# Altium schematic symbol library Atmega168-20au.SchLib: 1 symbol
Pins are listed as number, name and electrical type; pins without a type are passive.

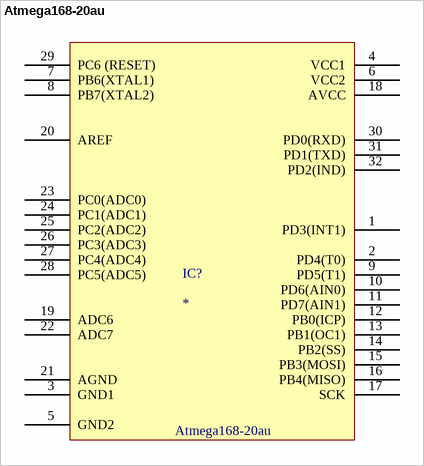
[diagram p0: symbol Atmega168-20au]

## Atmega168-20au
designator IC?
footprint atmega168-20au (TQFP, 32-Leads, Body 7.00x7.00mm, Pitch 0.80mm, IPC Medium Density)
pins: 1 PD3(INT1), 2 PD4(T0), 3 GND1, 4 VCC1, 5 GND2, 6 VCC2, 7 PB6(XTAL1), 8 PB7(XTAL2), 9 PD5(T1), 10 PD6(AIN0), 11 PD7(AIN1), 12 PB0(ICP), 13 PB1(OC1), 14 PB2(SS), 15 PB3(MOSI), 16 PB4(MISO), 17 SCK, 18 AVCC, 19 ADC6, 20 AREF, 21 AGND, 22 ADC7, 23 PC0(ADC0), 24 PC1(ADC1), 25 PC2(ADC2), 26 PC3(ADC3), 27 PC4(ADC4), 28 PC5(ADC5), 29 PC6 (RESET), 30 PD0(RXD), 31 PD1(TXD), 32 PD2(IND)